# Altium integrated library Texas Instruments Power Management PWM Controller.IntLib: 1227 symbols (part 24 of 49)
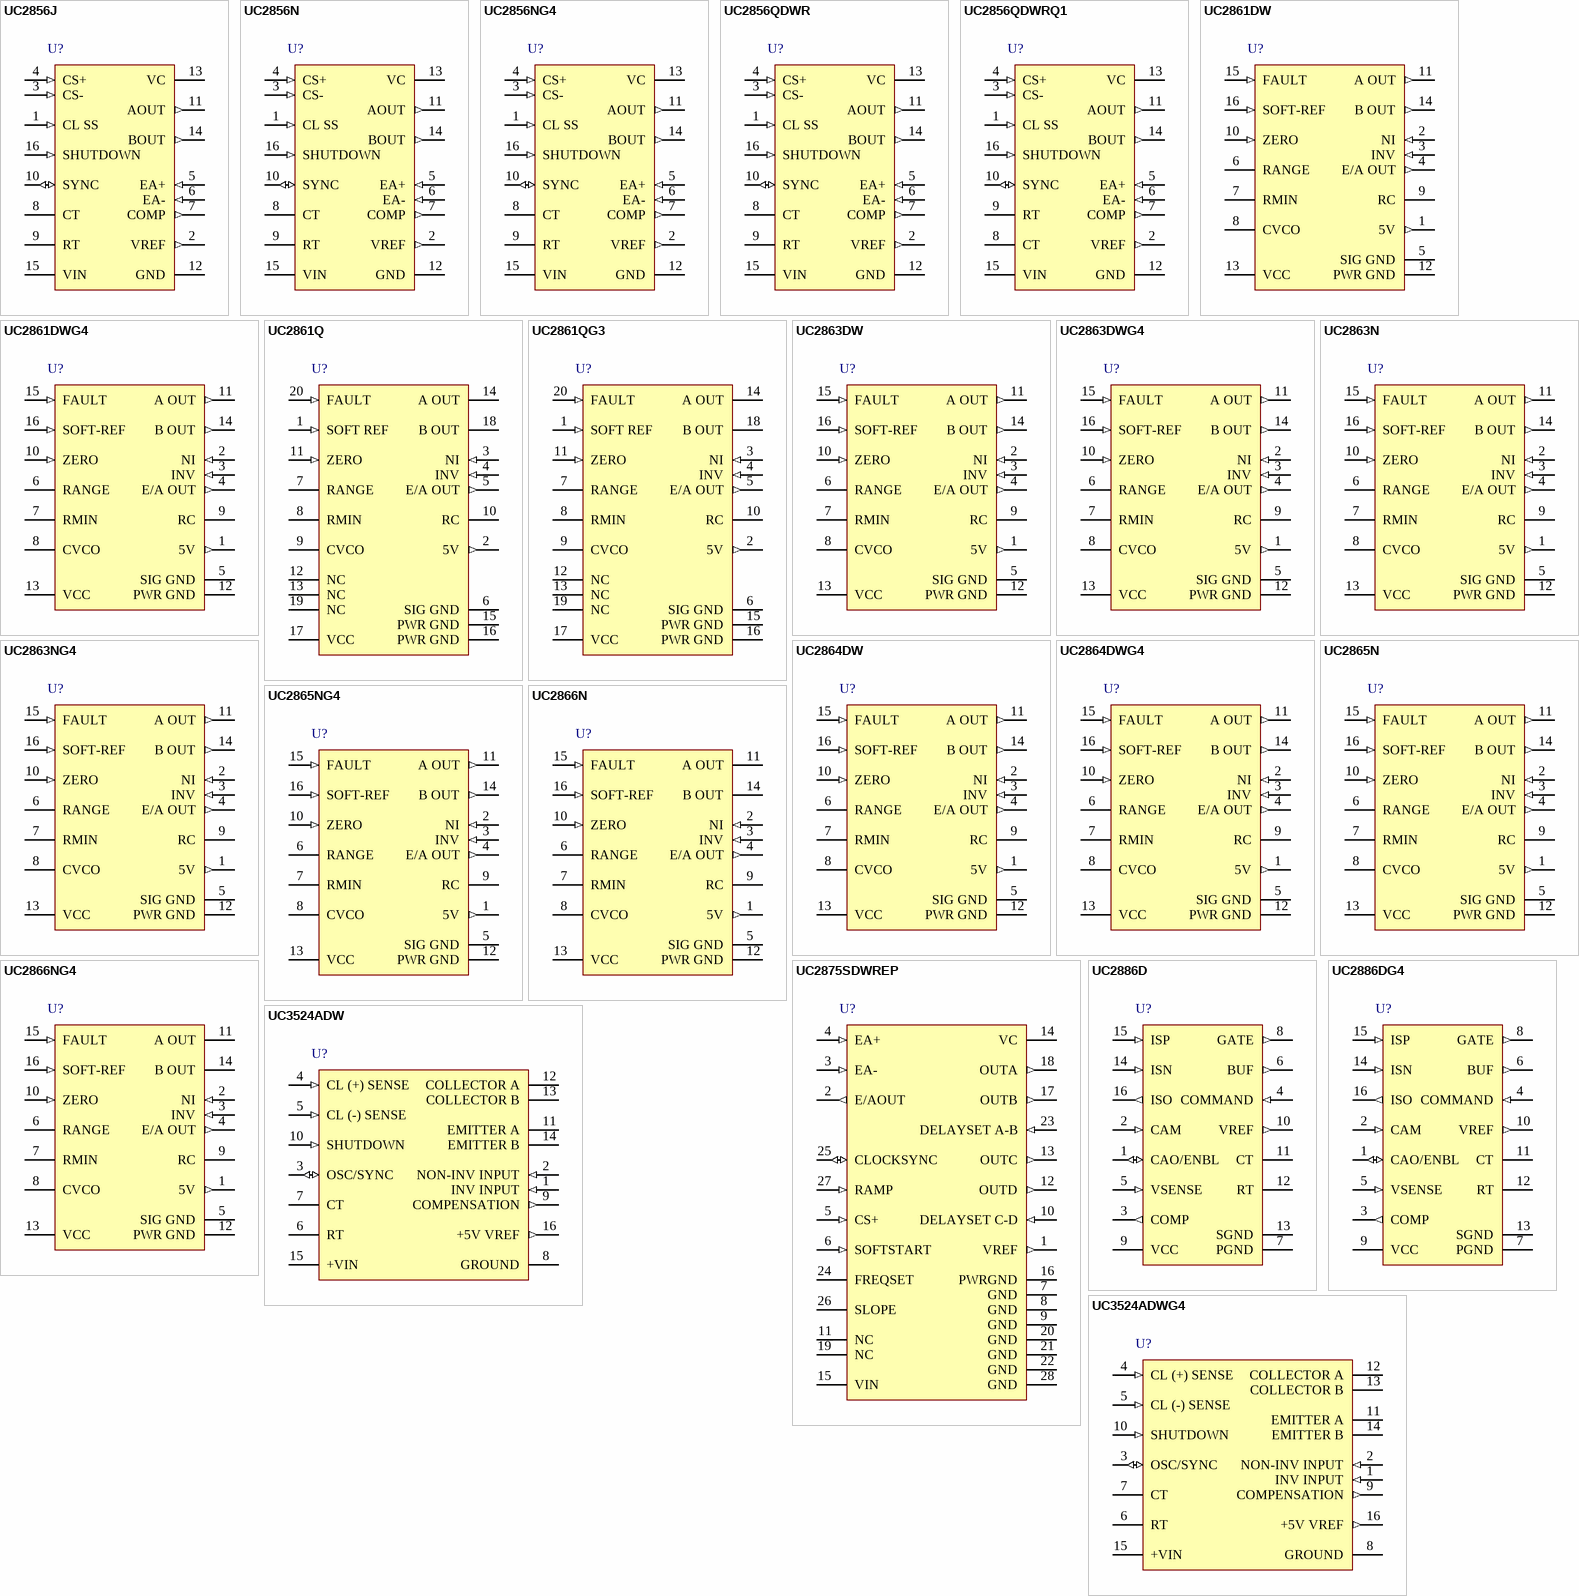
[diagram p66: symbols UC2856J to UC3524ADWG4]

## UC2861DWG4
designator U?
Resonant-Mode Power Supply Controller with Voltage Control, 50 % Duty Cycle, -40 to +85 degC, 16-pin SOIC (DW), Green (RoHS & no Sb/Br); PartNumber: UC2861DWG4; Manufacturer: Texas Instruments; Duty Cycle(Max)(%): 50; Frequency(Max)(kHz): 450; Rating: Catalog; Regulated Outputs(#): 2; SubFamily: PWM Controller; Topology: Full-Bridge, Half-Bridge, Push-Pull, Resonant; UVLO Thresholds On/Off(V): 16.5/10.5; DatasheetVersion: SLUS289B; PackageVersion: revG, Jan-2011; PackageReference: DW16; PackageDescription: 16-Pin Small Outline Integrated Circuit, 10.3 x 7.5 mm, Pitch 1.27 mm Pitch; Supplier 1: Digi-Key; Supplier Part Number 1: UC2861DWG4-ND; Supplier 2: Newark; Supplier Part Number 2: 63K6695; Supplier 3: Mouser; Supplier Part Number 3: 595-UC2861DWG4; Control Method: Voltage; Eco-Plan: Green (RoHS & no Sb/Br); Mounting Technology: Surface Mount; Code_JEDEC: MS-013-AA; ComponentLink1Description: Datasheet; ComponentLink1URL: http://www.ti.com/general/docs/lit/getliterature.tsp?genericPartNumber=UC2861&fileType=pdf
footprint DW16_N (SOIC, 16-Leads, Body 10.3x7.5mm, Pitch 1.27mm, IPC Medium Density)
footprint DW16_L (SOIC, 16-Leads, Body 10.3x7.5mm, Pitch 1.27mm, IPC High Density)
footprint DW16_M (SOIC, 16-Leads, Body 10.3x7.5mm, Pitch 1.27mm, IPC Low Density)
pins: 1 5V (out), 2 NI (in), 3 INV (in), 4 E/A OUT (out), 5 SIG GND (power), 6 RANGE, 7 RMIN, 8 CVCO, 9 RC, 10 ZERO (in), 11 A OUT (out), 12 PWR GND (power), 13 VCC (power), 14 B OUT (out), 15 FAULT (in), 16 SOFT-REF (in)

## UC2861Q
designator U?
Resonant-Mode Power Supply Controller with Voltage Control, 50 % Duty Cycle, -40 to +85 degC, 20-pin PLCC (FN), Green (RoHS & no Sb/Br); PartNumber: UC2861Q; Manufacturer: Texas Instruments; Duty Cycle(Max)(%): 50; Frequency(Max)(kHz): 450; Rating: Catalog; Regulated Outputs(#): 2; SubFamily: PWM Controller; Topology: Full-Bridge, Half-Bridge, Push-Pull, Resonant; UVLO Thresholds On/Off(V): 16.5/10.5; DatasheetVersion: SLUS289B; PackageVersion: revB, Mar-1995; PackageReference: FN20; PackageDescription: 20-Pin Plastic Leaded Chip Carrier, 1.27 mm Pitch; Supplier 1: Digi-Key; Supplier Part Number 1: UC2861Q-ND; Supplier 2: Newark; Supplier Part Number 2: 77C3041; Supplier 3: Mouser; Supplier Part Number 3: 595-UC2861Q; Control Method: Voltage; Eco-Plan: Green (RoHS & no Sb/Br); Mounting Technology: Surface Mount; Code_JEDEC: MS-018; ComponentLink1Description: Datasheet; ComponentLink1URL: http://www.ti.com/general/docs/lit/getliterature.tsp?genericPartNumber=UC2861&fileType=pdf
footprint FN20_N (Leaded Chip Carrier, 20-Leads, Body 9x9mm, Pitch 1.27mm, IPC Medium Density)
footprint FN20_L (Leaded Chip Carrier, 20-Leads, Body 9x9mm, Pitch 1.27mm, IPC High Density)
footprint FN20_M (Leaded Chip Carrier, 20-Leads, Body 9x9mm, Pitch 1.27mm, IPC Low Density)
pins: 1 SOFT REF (in), 2 5V (out), 3 NI (in), 4 INV (in), 5 E/A OUT (out), 6 SIG GND (power), 7 RANGE, 8 RMIN, 9 CVCO, 10 RC, 11 ZERO (in), 12 NC, 13 NC, 14 A OUT (hiz), 15 PWR GND (power), 16 PWR GND (power), 17 VCC (power), 18 B OUT (hiz), 19 NC, 20 FAULT (in)

## UC2861QG3
designator U?
Resonant-Mode Power Supply Controller with Voltage Control, 50 % Duty Cycle, -40 to +85 degC, 20-pin PLCC (FN), Green (RoHS & no Sb/Br); PartNumber: UC2861QG3; Manufacturer: Texas Instruments; Duty Cycle(Max)(%): 50; Frequency(Max)(kHz): 450; Rating: Catalog; Regulated Outputs(#): 2; SubFamily: PWM Controller; Topology: Full-Bridge, Half-Bridge, Push-Pull, Resonant; UVLO Thresholds On/Off(V): 16.5/10.5; DatasheetVersion: SLUS289B; PackageVersion: revB, Mar-1995; PackageReference: FN20; PackageDescription: 20-Pin Plastic Leaded Chip Carrier, 1.27 mm Pitch; Supplier 1: Digi-Key; Supplier Part Number 1: UC2861QG3-ND; Supplier 2: Newark; Supplier Part Number 2: 70K5986; Supplier 3: Mouser; Supplier Part Number 3: 595-UC2861QG3; Control Method: Voltage; Eco-Plan: Green (RoHS & no Sb/Br); Mounting Technology: Surface Mount; Code_JEDEC: MS-018; ComponentLink1Description: Datasheet; ComponentLink1URL: http://www.ti.com/general/docs/lit/getliterature.tsp?genericPartNumber=UC2861&fileType=pdf
footprint FN20_N (Leaded Chip Carrier, 20-Leads, Body 9x9mm, Pitch 1.27mm, IPC Medium Density)
footprint FN20_L (Leaded Chip Carrier, 20-Leads, Body 9x9mm, Pitch 1.27mm, IPC High Density)
footprint FN20_M (Leaded Chip Carrier, 20-Leads, Body 9x9mm, Pitch 1.27mm, IPC Low Density)
pins: 1 SOFT REF (in), 2 5V (out), 3 NI (in), 4 INV (in), 5 E/A OUT (out), 6 SIG GND (power), 7 RANGE, 8 RMIN, 9 CVCO, 10 RC, 11 ZERO (in), 12 NC, 13 NC, 14 A OUT (hiz), 15 PWR GND (power), 16 PWR GND (power), 17 VCC (power), 18 B OUT (hiz), 19 NC, 20 FAULT (in)

## UC2863DW
designator U?
Resonant-Mode Power Supply Controller with Voltage Control, 50 % Duty Cycle, -40 to +85 degC, 16-pin SOIC (DW), Green (RoHS & no Sb/Br); PartNumber: UC2863DW; Manufacturer: Texas Instruments; Duty Cycle(Max)(%): 50; Frequency(Max)(kHz): 450; Rating: Catalog; Regulated Outputs(#): 2; SubFamily: PWM Controller; Topology: Full-Bridge, Half-Bridge, Push-Pull, Resonant; UVLO Thresholds On/Off(V): 8/7; DatasheetVersion: SLUS289B; PackageVersion: revG, Jan-2011; PackageReference: DW16; PackageDescription: 16-Pin Small Outline Integrated Circuit, 10.3 x 7.5 mm, Pitch 1.27 mm Pitch; Supplier 1: Digi-Key; Supplier Part Number 1: 296-34725-5-ND; Supplier 2: Newark; Supplier Part Number 2: 77C3043; Supplier 3: Mouser; Supplier Part Number 3: 595-UC2863DW; Control Method: Voltage; Eco-Plan: Green (RoHS & no Sb/Br); Mounting Technology: Surface Mount; Code_JEDEC: MS-013-AA; ComponentLink1Description: Datasheet; ComponentLink1URL: http://www.ti.com/general/docs/lit/getliterature.tsp?genericPartNumber=UC2863&fileType=pdf
footprint DW16_N (SOIC, 16-Leads, Body 10.3x7.5mm, Pitch 1.27mm, IPC Medium Density)
footprint DW16_L (SOIC, 16-Leads, Body 10.3x7.5mm, Pitch 1.27mm, IPC High Density)
footprint DW16_M (SOIC, 16-Leads, Body 10.3x7.5mm, Pitch 1.27mm, IPC Low Density)
pins: 1 5V (out), 2 NI (in), 3 INV (in), 4 E/A OUT (out), 5 SIG GND (power), 6 RANGE, 7 RMIN, 8 CVCO, 9 RC, 10 ZERO (in), 11 A OUT (out), 12 PWR GND (power), 13 VCC (power), 14 B OUT (out), 15 FAULT (in), 16 SOFT-REF (in)

## UC2863DWG4
designator U?
Resonant-Mode Power Supply Controller with Voltage Control, 50 % Duty Cycle, -40 to +85 degC, 16-pin SOIC (DW), Green (RoHS & no Sb/Br); PartNumber: UC2863DWG4; Manufacturer: Texas Instruments; Duty Cycle(Max)(%): 50; Frequency(Max)(kHz): 450; Rating: Catalog; Regulated Outputs(#): 2; SubFamily: PWM Controller; Topology: Full-Bridge, Half-Bridge, Push-Pull, Resonant; UVLO Thresholds On/Off(V): 8/7; DatasheetVersion: SLUS289B; PackageVersion: revG, Jan-2011; PackageReference: DW16; PackageDescription: 16-Pin Small Outline Integrated Circuit, 10.3 x 7.5 mm, Pitch 1.27 mm Pitch; Supplier 1: Digi-Key; Supplier Part Number 1: UC2863DWG4-ND; Supplier 2: Newark; Supplier Part Number 2: 63K6697; Supplier 3: Mouser; Supplier Part Number 3: 595-UC2863DWG4; Control Method: Voltage; Eco-Plan: Green (RoHS & no Sb/Br); Mounting Technology: Surface Mount; Code_JEDEC: MS-013-AA; ComponentLink1Description: Datasheet; ComponentLink1URL: http://www.ti.com/general/docs/lit/getliterature.tsp?genericPartNumber=UC2863&fileType=pdf
footprint DW16_N (SOIC, 16-Leads, Body 10.3x7.5mm, Pitch 1.27mm, IPC Medium Density)
footprint DW16_L (SOIC, 16-Leads, Body 10.3x7.5mm, Pitch 1.27mm, IPC High Density)
footprint DW16_M (SOIC, 16-Leads, Body 10.3x7.5mm, Pitch 1.27mm, IPC Low Density)
pins: 1 5V (out), 2 NI (in), 3 INV (in), 4 E/A OUT (out), 5 SIG GND (power), 6 RANGE, 7 RMIN, 8 CVCO, 9 RC, 10 ZERO (in), 11 A OUT (out), 12 PWR GND (power), 13 VCC (power), 14 B OUT (out), 15 FAULT (in), 16 SOFT-REF (in)

## UC2863N
designator U?
Resonant-Mode Power Supply Controller with Voltage Control, 50 % Duty Cycle, -40 to +85 degC, 16-pin PDIP (N), Green (RoHS & no Sb/Br); PartNumber: UC2863N; Manufacturer: Texas Instruments; Duty Cycle(Max)(%): 50; Frequency(Max)(kHz): 450; Rating: Catalog; Regulated Outputs(#): 2; SubFamily: PWM Controller; Topology: Full-Bridge, Half-Bridge, Push-Pull, Resonant; UVLO Thresholds On/Off(V): 8/7; DatasheetVersion: SLUS289B; PackageVersion: revE, Dec-2002; PackageReference: N16; PackageDescription: 16-Pin Plastic Dual-In-Line Package, Row Spacing 7.62 mm, Pitch 2.54 mm; Supplier 1: Digi-Key; Supplier Part Number 1: UC2863N-ND; Supplier 2: Newark; Supplier Part Number 2: 77C3045; Supplier 3: Mouser; Supplier Part Number 3: 595-UC2863N; Control Method: Voltage; Eco-Plan: Green (RoHS & no Sb/Br); Mounting Technology: Through Hole; Code_JEDEC: MS-001*; ComponentLink1Description: Datasheet; ComponentLink1URL: http://www.ti.com/general/docs/lit/getliterature.tsp?genericPartNumber=UC2863&fileType=pdf
footprint N16 (DIP, 16-Leads, Row Spacing 7.62mm, Pitch 2.54mm, Body 19.3x6.4mm)
pins: 1 5V (out), 2 NI (in), 3 INV (in), 4 E/A OUT (out), 5 SIG GND (power), 6 RANGE, 7 RMIN, 8 CVCO, 9 RC, 10 ZERO (in), 11 A OUT (out), 12 PWR GND (power), 13 VCC (power), 14 B OUT (out), 15 FAULT (in), 16 SOFT-REF (in)

## UC2863NG4
designator U?
Resonant-Mode Power Supply Controller with Voltage Control, 50 % Duty Cycle, -40 to +85 degC, 16-pin PDIP (N), Green (RoHS & no Sb/Br); PartNumber: UC2863NG4; Manufacturer: Texas Instruments; Duty Cycle(Max)(%): 50; Frequency(Max)(kHz): 450; Rating: Catalog; Regulated Outputs(#): 2; SubFamily: PWM Controller; Topology: Full-Bridge, Half-Bridge, Push-Pull, Resonant; UVLO Thresholds On/Off(V): 8/7; DatasheetVersion: SLUS289B; PackageVersion: revE, Dec-2002; PackageReference: N16; PackageDescription: 16-Pin Plastic Dual-In-Line Package, Row Spacing 7.62 mm, Pitch 2.54 mm; Supplier 1: Digi-Key; Supplier Part Number 1: UC2863NG4-ND; Supplier 2: Newark; Supplier Part Number 2: 67K8822; Supplier 3: Mouser; Supplier Part Number 3: 595-UC2863NG4; Control Method: Voltage; Eco-Plan: Green (RoHS & no Sb/Br); Mounting Technology: Through Hole; Code_JEDEC: MS-001*; ComponentLink1Description: Datasheet; ComponentLink1URL: http://www.ti.com/general/docs/lit/getliterature.tsp?genericPartNumber=UC2863&fileType=pdf
footprint N16 (DIP, 16-Leads, Row Spacing 7.62mm, Pitch 2.54mm, Body 19.3x6.4mm)
pins: 1 5V (out), 2 NI (in), 3 INV (in), 4 E/A OUT (out), 5 SIG GND (power), 6 RANGE, 7 RMIN, 8 CVCO, 9 RC, 10 ZERO (in), 11 A OUT (out), 12 PWR GND (power), 13 VCC (power), 14 B OUT (out), 15 FAULT (in), 16 SOFT-REF (in)

## UC2864DW
designator U?
Resonant-Mode Power Supply Controller with Voltage Control, 1 % Duty Cycle, -40 to +85 degC, 16-pin SOIC (DW), Green (RoHS & no Sb/Br); PartNumber: UC2864DW; Manufacturer: Texas Instruments; Duty Cycle(Max)(%): 1; Frequency(Max)(kHz): 450; Rating: Catalog; SubFamily: PWM Controller; Topology: Boost, Buck, Flyback, Forward, Resonant; UVLO Thresholds On/Off(V): 8/7; DatasheetVersion: SLUS289B; PackageVersion: revG, Jan-2011; PackageReference: DW16; PackageDescription: 16-Pin Small Outline Integrated Circuit, 10.3 x 7.5 mm, Pitch 1.27 mm Pitch; Supplier 1: Digi-Key; Supplier Part Number 1: 296-11199-5-ND; Supplier 2: Newark; Supplier Part Number 2: 77C3046; Supplier 3: Mouser; Supplier Part Number 3: 595-UC2864DW; Control Method: Voltage; Eco-Plan: Green (RoHS & no Sb/Br); Regulated Outputs(#): 1; Mounting Technology: Surface Mount; Code_JEDEC: MS-013-AA; ComponentLink1Description: Datasheet; ComponentLink1URL: http://www.ti.com/general/docs/lit/getliterature.tsp?genericPartNumber=UC2864&fileType=pdf
footprint DW16_N (SOIC, 16-Leads, Body 10.3x7.5mm, Pitch 1.27mm, IPC Medium Density)
footprint DW16_L (SOIC, 16-Leads, Body 10.3x7.5mm, Pitch 1.27mm, IPC High Density)
footprint DW16_M (SOIC, 16-Leads, Body 10.3x7.5mm, Pitch 1.27mm, IPC Low Density)
pins: 1 5V (out), 2 NI (in), 3 INV (in), 4 E/A OUT (out), 5 SIG GND (power), 6 RANGE, 7 RMIN, 8 CVCO, 9 RC, 10 ZERO (in), 11 A OUT (out), 12 PWR GND (power), 13 VCC (power), 14 B OUT (out), 15 FAULT (in), 16 SOFT-REF (in)

## UC2864DWG4
designator U?
Resonant-Mode Power Supply Controller with Voltage Control, 1 % Duty Cycle, -40 to +85 degC, 16-pin SOIC (DW), Green (RoHS & no Sb/Br); PartNumber: UC2864DWG4; Manufacturer: Texas Instruments; Duty Cycle(Max)(%): 1; Frequency(Max)(kHz): 450; Rating: Catalog; SubFamily: PWM Controller; Topology: Boost, Buck, Flyback, Forward, Resonant; UVLO Thresholds On/Off(V): 8/7; DatasheetVersion: SLUS289B; PackageVersion: revG, Jan-2011; PackageReference: DW16; PackageDescription: 16-Pin Small Outline Integrated Circuit, 10.3 x 7.5 mm, Pitch 1.27 mm Pitch; Supplier 1: Digi-Key; Supplier Part Number 1: UC2864DWG4-ND; Supplier 2: Newark; Supplier Part Number 2: 63K6699; Supplier 3: Mouser; Supplier Part Number 3: 595-UC2864DWG4; Control Method: Voltage; Eco-Plan: Green (RoHS & no Sb/Br); Regulated Outputs(#): 1; Mounting Technology: Surface Mount; Code_JEDEC: MS-013-AA; ComponentLink1Description: Datasheet; ComponentLink1URL: http://www.ti.com/general/docs/lit/getliterature.tsp?genericPartNumber=UC2864&fileType=pdf
footprint DW16_N (SOIC, 16-Leads, Body 10.3x7.5mm, Pitch 1.27mm, IPC Medium Density)
footprint DW16_L (SOIC, 16-Leads, Body 10.3x7.5mm, Pitch 1.27mm, IPC High Density)
footprint DW16_M (SOIC, 16-Leads, Body 10.3x7.5mm, Pitch 1.27mm, IPC Low Density)
pins: 1 5V (out), 2 NI (in), 3 INV (in), 4 E/A OUT (out), 5 SIG GND (power), 6 RANGE, 7 RMIN, 8 CVCO, 9 RC, 10 ZERO (in), 11 A OUT (out), 12 PWR GND (power), 13 VCC (power), 14 B OUT (out), 15 FAULT (in), 16 SOFT-REF (in)

## UC2865N
designator U?
Resonant-Mode Power Supply Controller with Voltage Control, 50 % Duty Cycle, -40 to +85 degC, 16-pin PDIP (N), Green (RoHS & no Sb/Br); PartNumber: UC2865N; Manufacturer: Texas Instruments; Duty Cycle(Max)(%): 50; Frequency(Max)(kHz): 450; Rating: Catalog; Regulated Outputs(#): 2; SubFamily: PWM Controller; Topology: Full-Bridge, Half-Bridge, Push-Pull, Resonant; UVLO Thresholds On/Off(V): 16.5/10.5; DatasheetVersion: SLUS289B; PackageVersion: revE, Dec-2002; PackageReference: N16; PackageDescription: 16-Pin Plastic Dual-In-Line Package, Row Spacing 7.62 mm, Pitch 2.54 mm; Supplier 1: Digi-Key; Supplier Part Number 1: 296-34726-5-ND; Supplier 2: Newark; Supplier Part Number 2: 77C3051; Supplier 3: Mouser; Supplier Part Number 3: 595-UC2865N; Control Method: Voltage; Eco-Plan: Green (RoHS & no Sb/Br); Mounting Technology: Through Hole; Code_JEDEC: MS-001*; ComponentLink1Description: Datasheet; ComponentLink1URL: http://www.ti.com/general/docs/lit/getliterature.tsp?genericPartNumber=UC2865&fileType=pdf
footprint N16 (DIP, 16-Leads, Row Spacing 7.62mm, Pitch 2.54mm, Body 19.3x6.4mm)
pins: 1 5V (out), 2 NI (in), 3 INV (in), 4 E/A OUT (out), 5 SIG GND (power), 6 RANGE, 7 RMIN, 8 CVCO, 9 RC, 10 ZERO (in), 11 A OUT (out), 12 PWR GND (power), 13 VCC (power), 14 B OUT (out), 15 FAULT (in), 16 SOFT-REF (in)

## UC2865NG4
designator U?
Resonant-Mode Power Supply Controller with Voltage Control, 50 % Duty Cycle, -40 to +85 degC, 16-pin PDIP (N), Green (RoHS & no Sb/Br); PartNumber: UC2865NG4; Manufacturer: Texas Instruments; Duty Cycle(Max)(%): 50; Frequency(Max)(kHz): 450; Rating: Catalog; Regulated Outputs(#): 2; SubFamily: PWM Controller; Topology: Full-Bridge, Half-Bridge, Push-Pull, Resonant; UVLO Thresholds On/Off(V): 16.5/10.5; DatasheetVersion: SLUS289B; PackageVersion: revE, Dec-2002; PackageReference: N16; PackageDescription: 16-Pin Plastic Dual-In-Line Package, Row Spacing 7.62 mm, Pitch 2.54 mm; Supplier 1: Digi-Key; Supplier Part Number 1: UC2865NG4-ND; Supplier 2: Newark; Supplier Part Number 2: 54K2289; Supplier 3: Mouser; Supplier Part Number 3: 595-UC2865NG4; Control Method: Voltage; Eco-Plan: Green (RoHS & no Sb/Br); Mounting Technology: Through Hole; Code_JEDEC: MS-001*; ComponentLink1Description: Datasheet; ComponentLink1URL: http://www.ti.com/general/docs/lit/getliterature.tsp?genericPartNumber=UC2865&fileType=pdf
footprint N16 (DIP, 16-Leads, Row Spacing 7.62mm, Pitch 2.54mm, Body 19.3x6.4mm)
pins: 1 5V (out), 2 NI (in), 3 INV (in), 4 E/A OUT (out), 5 SIG GND (power), 6 RANGE, 7 RMIN, 8 CVCO, 9 RC, 10 ZERO (in), 11 A OUT (out), 12 PWR GND (power), 13 VCC (power), 14 B OUT (out), 15 FAULT (in), 16 SOFT-REF (in)

## UC2866N
designator U?
Resonant-Mode Power Supply Controller with Voltage Control, 1 % Duty Cycle, -40 to +85 degC, 16-pin PDIP (N), Green (RoHS & no Sb/Br); PartNumber: UC2866N; Manufacturer: Texas Instruments; Duty Cycle(Max)(%): 1; Frequency(Max)(kHz): 450; Rating: Catalog; SubFamily: PWM Controller; Topology: Boost, Buck, Flyback, Forward, Resonant; UVLO Thresholds On/Off(V): 16.5/10.5; DatasheetVersion: SLUS289B; PackageVersion: revE, Dec-2002; PackageReference: N16; PackageDescription: 16-Pin Plastic Dual-In-Line Package, Row Spacing 7.62 mm, Pitch 2.54 mm; Supplier 1: Digi-Key; Supplier Part Number 1: 296-15348-5-ND; Supplier 2: Newark; Supplier Part Number 2: 77C3052; Supplier 3: Mouser; Supplier Part Number 3: 595-UC2866N; Control Method: Voltage; Eco-Plan: Green (RoHS & no Sb/Br); Regulated Outputs(#): 1; Mounting Technology: Through Hole; Code_JEDEC: MS-001*; ComponentLink1Description: Datasheet; ComponentLink1URL: http://www.ti.com/general/docs/lit/getliterature.tsp?genericPartNumber=UC2866&fileType=pdf
footprint N16 (DIP, 16-Leads, Row Spacing 7.62mm, Pitch 2.54mm, Body 19.3x6.4mm)
pins: 1 5V (out), 2 NI (in), 3 INV (in), 4 E/A OUT (out), 5 SIG GND (power), 6 RANGE, 7 RMIN, 8 CVCO, 9 RC, 10 ZERO (in), 11 A OUT (hiz), 12 PWR GND (power), 13 VCC (power), 14 B OUT (hiz), 15 FAULT (in), 16 SOFT-REF (in)

## UC2866NG4
designator U?
Resonant-Mode Power Supply Controller with Voltage Control, 1 % Duty Cycle, -40 to +85 degC, 16-pin PDIP (N), Green (RoHS & no Sb/Br); PartNumber: UC2866NG4; Manufacturer: Texas Instruments; Duty Cycle(Max)(%): 1; Frequency(Max)(kHz): 450; Rating: Catalog; SubFamily: PWM Controller; Topology: Boost, Buck, Flyback, Forward, Resonant; UVLO Thresholds On/Off(V): 16.5/10.5; DatasheetVersion: SLUS289B; PackageVersion: revE, Dec-2002; PackageReference: N16; PackageDescription: 16-Pin Plastic Dual-In-Line Package, Row Spacing 7.62 mm, Pitch 2.54 mm; Supplier 1: Digi-Key; Supplier Part Number 1: UC2866NG4-ND; Supplier 2: Newark; Supplier Part Number 2: 61K1998; Supplier 3: Mouser; Supplier Part Number 3: 595-UC2866NG4; Control Method: Voltage; Eco-Plan: Green (RoHS & no Sb/Br); Regulated Outputs(#): 1; Mounting Technology: Through Hole; Code_JEDEC: MS-001*; ComponentLink1Description: Datasheet; ComponentLink1URL: http://www.ti.com/general/docs/lit/getliterature.tsp?genericPartNumber=UC2866&fileType=pdf
footprint N16 (DIP, 16-Leads, Row Spacing 7.62mm, Pitch 2.54mm, Body 19.3x6.4mm)
pins: 1 5V (out), 2 NI (in), 3 INV (in), 4 E/A OUT (out), 5 SIG GND (power), 6 RANGE, 7 RMIN, 8 CVCO, 9 RC, 10 ZERO (in), 11 A OUT (hiz), 12 PWR GND (power), 13 VCC (power), 14 B OUT (hiz), 15 FAULT (in), 16 SOFT-REF (in)

## UC2875SDWREP
designator U?
Phase Shift Resonant Controller with Current, Voltage Control, 100 % Duty Cycle, -25 to +110 degC, 28-pin SOIC (DW), Green (RoHS & no Sb/Br); PartNumber: UC2875SDWREP; Manufacturer: Texas Instruments; Duty Cycle(Max)(%): 100; Frequency(Max)(kHz): 1000; Rating: HiRel Enhanced Product; Regulated Outputs(#): 4; SubFamily: PWM Controller; Topology: Full-Bridge; DatasheetVersion: SGLS233A; PackageVersion: revG, Jan-2011; PackageReference: DW28; PackageDescription: 28-Pin Plastic Small Outline Integrated Circuit, 17.9 x 7.5 mm, Pitch 1.27 mm Pitch; Supplier 1: Digi-Key; Supplier Part Number 1: 296-20800-2-ND; Supplier 2: Digi-Key; Supplier Part Number 2: 296-20800-1-ND; Supplier 3: Digi-Key; Supplier Part Number 3: 296-20800-6-ND; Supplier 4: Newark; Supplier Part Number 4: 46M1396; Supplier 5: Mouser; Supplier Part Number 5: 595-UC2875SDWREP; Control Method: Current, Voltage; Eco-Plan: Green (RoHS & no Sb/Br); Mounting Technology: Surface Mount; Code_JEDEC: MS-013-AE; ComponentLink1Description: Datasheet; ComponentLink1URL: http://www.ti.com/general/docs/lit/getliterature.tsp?genericPartNumber=UC2875-EP&fileType=pdf
footprint DW28_N (SOIC, 28-Leads, Body 17.9x7.5mm, Pitch 1.27mm, IPC Medium Density)
footprint DW28_L (SOIC, 28-Leads, Body 17.9x7.5mm, Pitch 1.27mm, IPC High Density)
footprint DW28_M (SOIC, 28-Leads, Body 17.9x7.5mm, Pitch 1.27mm, IPC Low Density)
pins: 1 VREF (out) "This pin is an accurate 5 V voltage reference. This output is capable of delivering about 60 mA to peripheral circuitry and is internally short circuit current limited. VREF is disabled while VIN is low enough to force the (See Datasheet)", 2 E/AOUT (out) "(error amplifier output): This is is the gain stage for overall feedback control. Error amplifier output voltage levels below 1 volt will force 0 degC  phase shift. Since the error amplifier has a relatively low current (See Datasheet)", 3 EA- (in) "This is normally connected to the voltage divider resistors which sense the power supply output voltage level.", 4 EA+ (in) "This is normally connected to a reference voltage used for comparison with the sensed power supply output voltage level at the EA+ pin.", 5 CS+ (in) "The non-inverting input to the current- fault comparator whose reference is set internally to a fixed 2.5 V (separate from VREF). When the voltage at this pin exceeds 2.5 V the current-fault latch is set, the outputs are (See Datasheet)", 6 SOFTSTART (in) "SOFTSTART will remain at GND as long as VIN is below the UVLO threshold. SOFTSTART will be pulled up to about 4.8 V by an internal 9 uA current source when VIN becomes valid (assuming a non-fault condition). In the event of (See Datasheet)", 7 GND (power) "All voltages are measured with respect to GND. The timing capacitor, on the FREQSET pin, any bypass capacitor on the VREF pin, bypass capacitors on VIN and the ramp capacitor, on the RAMP pin, should be connected directly to (See Datasheet)", 8 GND (power) "All voltages are measured with respect to GND. The timing capacitor, on the FREQSET pin, any bypass capacitor on the VREF pin, bypass capacitors on VIN and the ramp capacitor, on the RAMP pin, should be connected directly to (See Datasheet)", 9 GND (power) "All voltages are measured with respect to GND. The timing capacitor, on the FREQSET pin, any bypass capacitor on the VREF pin, bypass capacitors on VIN and the ramp capacitor, on the RAMP pin, should be connected directly to (See Datasheet)", 10 DELAYSET C-D (in) "The user programmed current flowing from these pins to GND set the turn-on delay for the corresponding output pair. This delay is introduced between turn-off of one switch and turn-on of another in the same leg of the bridge (See Datasheet)", 11 NC "No Connect", 12 OUTD (out) "The outputs are 2 A totem- pole drivers optimized for both MOSFET gates and level-shifting transformers. The outputs operate as pairs with a nominal 50% duty-cycle. The A-B pair is intended to drive one half-bridge in the (See Datasheet)", 13 OUTC (out) "The outputs are 2 A totem- pole drivers optimized for both MOSFET gates and level-shifting transformers. The outputs operate as pairs with a nominal 50% duty-cycle. The A-B pair is intended to drive one half-bridge in the (See Datasheet)", 14 VC (power) "This pin supplies power to the output drivers and their associated bias circuitry. Connect VC to a stable source above 3 V for normal operation, above 12 V for best performance. This supply should be bypassed directly to the (See Datasheet)", 15 VIN (power) "This pin supplies power to the logic and analog circuitry on the integrated circuit that is not directly associated with driving the output stages. Connect VIN to a stable source above 12 V for normal operation. To ensure (See Datasheet)", 16 PWRGND (power) "VC should be bypassed with a ceramic capacitor from the VC pin to the section of the ground plane that is connected to PWRGND. Any required bulk reservoir capacitor should parallel this one. Power ground and signal ground (See Datasheet)", 17 OUTB (out) "The outputs are 2 A totem- pole drivers optimized for both MOSFET gates and level-shifting transformers. The outputs operate as pairs with a nominal 50% duty-cycle. The A-B pair is intended to drive one half-bridge in the (See Datasheet)", 18 OUTA (out) "The outputs are 2 A totem- pole drivers optimized for both MOSFET gates and level-shifting transformers. The outputs operate as pairs with a nominal 50% duty-cycle. The A-B pair is intended to drive one half-bridge in the (See Datasheet)", 19 NC "No Connect", 20 GND (power) "All voltages are measured with respect to GND. The timing capacitor, on the FREQSET pin, any bypass capacitor on the VREF pin, bypass capacitors on VIN and the ramp capacitor, on the RAMP pin, should be connected directly to (See Datasheet)", 21 GND (power) "All voltages are measured with respect to GND. The timing capacitor, on the FREQSET pin, any bypass capacitor on the VREF pin, bypass capacitors on VIN and the ramp capacitor, on the RAMP pin, should be connected directly to (See Datasheet)", 22 GND (power) "All voltages are measured with respect to GND. The timing capacitor, on the FREQSET pin, any bypass capacitor on the VREF pin, bypass capacitors on VIN and the ramp capacitor, on the RAMP pin, should be connected directly to (See Datasheet)", 23 DELAYSET A-B (in) "The user programmed current flowing from these pins to GND set the turn-on delay for the corresponding output pair. This delay is introduced between turn-off of one switch and turn-on of another in the same leg of the bridge (See Datasheet)", 24 FREQSET "A resistor and a capacitor from FREQSET to GND will set the oscillator frequency.", 25 CLOCKSYNC (io) "(bi-directional clock and synchronization pin): Used as an output, this pin provides a clock signal. As an input, this pin provides a synchronization point. In its simplest usage, multiple devices, each with their own local (See Datasheet)", 26 SLOPE "A resistor from this pin to VCC will set the current used to generate the ramp. Connecting this resistor to the DC input line voltage will provide voltage feed-forward.", 27 RAMP (in) "This pin is the input to the PWM comparator. Connect a capacitor from here to GND.Current mode control may be achieved with a minimum amount of external circuitry, in which  ease this pin provides slope compensation.Beacuse (See Datasheet)", 28 GND (power) "All voltages are measured with respect to GND. The timing capacitor, on the FREQSET pin, any bypass capacitor on the VREF pin, bypass capacitors on VIN and the ramp capacitor, on the RAMP pin, should be connected directly to (See Datasheet)"

## UC2886D
designator U?
Average PWM Controller IC with Current Control, -40 to +85 degC, 16-pin SOIC (D), Green (RoHS & no Sb/Br); PartNumber: UC2886D; Manufacturer: Texas Instruments; Frequency(Max)(kHz): 400; Rating: Catalog; Regulated Outputs(#): 1; DatasheetVersion: SLUS231; PackageVersion: revM, Jun-2011; PackageReference: D16; PackageDescription: 16-Pin Plastic Small Outline Integrated Circuit, 9.9 x 3.9 mm, Pitch 1.27 mm Pitch; Supplier 1: Digi-Key; Supplier Part Number 1: 296-34729-5-ND; Supplier 2: Newark; Supplier Part Number 2: 77C3074; Supplier 3: Mouser; Supplier Part Number 3: 595-UC2886D; Control Method: Current; Eco-Plan: Green (RoHS & no Sb/Br); SubFamily: PWM Controller; Mounting Technology: Surface Mount; Code_JEDEC: MS-012AC; ComponentLink1Description: Datasheet; ComponentLink1URL: http://www.ti.com/general/docs/lit/getliterature.tsp?genericPartNumber=UC2886&fileType=pdf
footprint D16_N (SOIC, 16-Leads, Body 9.9x3.9mm, Pitch 1.27mm, IPC Medium Density)
footprint D16_L (SOIC, 16-Leads, Body 9.9x3.9mm, Pitch 1.27mm, IPC High Density)
footprint D16_M (SOIC, 16-Leads, Body 9.9x3.9mm, Pitch 1.27mm, IPC Low Density)
pins: 1 CAO/ENBL (io) "(Current Amplifier Output/Chip Enable) The current loop compensation network is connected between CAO/ENBL and CAM, the inverting input of the current amplifier. The voltage at CAO/ENBL is the input to the PWM comparator and (See Datasheet)", 2 CAM (in) "(Current Amplifier Minus Input) The average load current feedback from ISO is typically applied through a resistor here.", 3 COMP (out) "(Compensation, Voltage Amplifier Output) The system voltage compensation network is applied between COMP and VSENSE. The voltage at COMP is clamped to prevent it from going more than 1V above the COMMAND voltage. This is (See Datasheet)", 4 COMMAND (in) "(Voltage Amplifier Non-Inverting Input) This input to the voltage amplifier is connected to a command voltage, such as the output of a DAC. This voltage sets the switching regulator output voltage.", 5 VSENSE (in) "(Voltage Sense Input) This input is connected to COMP through a feedback network and to the power supply output through a resistor or a divider network.", 6 BUF (out) "The voltage on COMMAND pin is buffered and presented to the user here. This voltage is used to provide the operating bias point for the current sense amplifier by connecting a resistor between BUF and ISP. Decouple BUF with (See Datasheet)", 7 PGND (power) "(Power Ground) The PWM output current returns to ground through this pin. This is separated from SGND to avoid on-chip ground noise generated by the output current.", 8 GATE (out) "(PWM Output) The output is a 1A totem pole driver. Use a series resistor of at least 5 to prevent interaction between the gate impedance and the output driver that might cause excessive overshoot.", 9 VCC (power) "(Positive Supply Voltage) This pin supplies power to the chip and to the gate drive output. Decouple to PGND and separately to SGND for best noise immunity. The reference (VREF), GATE output, oscillator, and amplifiers are (See Datasheet)", 10 VREF (out) "(Voltage Reference Output) An accurate 5V reference as provided at this pin. The output can deliver 2mA to external circuitry, and is internally short circuit current limited.", 11 CT "(Oscillator Timing Capacitor) A capacitor from CT to SGND along with the resistor on RT.", 12 RT "(Oscillator Charging Current) This pin is held at 2V. Resistor RT from this pin to SGND sets the oscillator charging current. Use 5k < RT < 100k.", 13 SGND (power) "(Signal Ground) For better noise immunity, signal ground is provided at this pin.", 14 ISN (in) "(Current Sense Amplifier Inverting Input) A resistor to the low side of the average current sense resistor and a resistor to ISO are applied to this pin to make a differential sensing amplifier.", 15 ISP (in) "(Current Sense Amplifier Non-Inverting Input) A resistor to the high side of the average current sense resistor and a resistor to BUF are connected to this pin to make a differential sensing amplifier.", 16 ISO (out) "(Current Sense Amplifier Output) A feedback resistor to ISN is connected here to make a differential sensing amplifier."

## UC2886DG4
designator U?
Average PWM Controller IC with Current Control, -40 to +85 degC, 16-pin SOIC (D), Green (RoHS & no Sb/Br); PartNumber: UC2886DG4; Manufacturer: Texas Instruments; Frequency(Max)(kHz): 400; Rating: Catalog; Regulated Outputs(#): 1; DatasheetVersion: SLUS231; PackageVersion: revM, Jun-2011; PackageReference: D16; PackageDescription: 16-Pin Plastic Small Outline Integrated Circuit, 9.9 x 3.9 mm, Pitch 1.27 mm Pitch; Supplier 1: Digi-Key; Supplier Part Number 1: UC2886DG4-ND; Supplier 2: Newark; Supplier Part Number 2: 81K4517; Supplier 3: Mouser; Supplier Part Number 3: 595-UC2886DG4; Control Method: Current; Eco-Plan: Green (RoHS & no Sb/Br); SubFamily: PWM Controller; Mounting Technology: Surface Mount; Code_JEDEC: MS-012AC; ComponentLink1Description: Datasheet; ComponentLink1URL: http://www.ti.com/general/docs/lit/getliterature.tsp?genericPartNumber=UC2886&fileType=pdf
footprint D16_N (SOIC, 16-Leads, Body 9.9x3.9mm, Pitch 1.27mm, IPC Medium Density)
footprint D16_L (SOIC, 16-Leads, Body 9.9x3.9mm, Pitch 1.27mm, IPC High Density)
footprint D16_M (SOIC, 16-Leads, Body 9.9x3.9mm, Pitch 1.27mm, IPC Low Density)
pins: 1 CAO/ENBL (io) "(Current Amplifier Output/Chip Enable) The current loop compensation network is connected between CAO/ENBL and CAM, the inverting input of the current amplifier. The voltage at CAO/ENBL is the input to the PWM comparator and (See Datasheet)", 2 CAM (in) "(Current Amplifier Minus Input) The average load current feedback from ISO is typically applied through a resistor here.", 3 COMP (out) "(Compensation, Voltage Amplifier Output) The system voltage compensation network is applied between COMP and VSENSE. The voltage at COMP is clamped to prevent it from going more than 1V above the COMMAND voltage. This is (See Datasheet)", 4 COMMAND (in) "(Voltage Amplifier Non-Inverting Input) This input to the voltage amplifier is connected to a command voltage, such as the output of a DAC. This voltage sets the switching regulator output voltage.", 5 VSENSE (in) "(Voltage Sense Input) This input is connected to COMP through a feedback network and to the power supply output through a resistor or a divider network.", 6 BUF (out) "The voltage on COMMAND pin is buffered and presented to the user here. This voltage is used to provide the operating bias point for the current sense amplifier by connecting a resistor between BUF and ISP. Decouple BUF with (See Datasheet)", 7 PGND (power) "(Power Ground) The PWM output current returns to ground through this pin. This is separated from SGND to avoid on-chip ground noise generated by the output current.", 8 GATE (out) "(PWM Output) The output is a 1A totem pole driver. Use a series resistor of at least 5 to prevent interaction between the gate impedance and the output driver that might cause excessive overshoot.", 9 VCC (power) "(Positive Supply Voltage) This pin supplies power to the chip and to the gate drive output. Decouple to PGND and separately to SGND for best noise immunity. The reference (VREF), GATE output, oscillator, and amplifiers are (See Datasheet)", 10 VREF (out) "(Voltage Reference Output) An accurate 5V reference as provided at this pin. The output can deliver 2mA to external circuitry, and is internally short circuit current limited.", 11 CT "(Oscillator Timing Capacitor) A capacitor from CT to SGND along with the resistor on RT.", 12 RT "(Oscillator Charging Current) This pin is held at 2V. Resistor RT from this pin to SGND sets the oscillator charging current. Use 5k < RT < 100k.", 13 SGND (power) "(Signal Ground) For better noise immunity, signal ground is provided at this pin.", 14 ISN (in) "(Current Sense Amplifier Inverting Input) A resistor to the low side of the average current sense resistor and a resistor to ISO are applied to this pin to make a differential sensing amplifier.", 15 ISP (in) "(Current Sense Amplifier Non-Inverting Input) A resistor to the high side of the average current sense resistor and a resistor to BUF are connected to this pin to make a differential sensing amplifier.", 16 ISO (out) "(Current Sense Amplifier Output) A feedback resistor to ISN is connected here to make a differential sensing amplifier."

## UC3524ADW
designator U?
Advanced Regulating Pulse Width Modulator with Voltage Control, 50 % Duty Cycle, 0 to +70 degC, 16-pin SOIC (DW), Green (RoHS & no Sb/Br); PartNumber: UC3524ADW; Manufacturer: Texas Instruments; Duty Cycle(Max)(%): 50; Frequency(Max)(kHz): 450; Rating: Catalog; Regulated Outputs(#): 2; SubFamily: PWM Controller; Topology: Boost, Buck, Flyback, Forward, Full-Bridge, Half-Bridge, Push-Pull; DatasheetVersion: SLUS181B; PackageVersion: revG, Jan-2011; PackageReference: DW16; PackageDescription: 16-Pin Small Outline Integrated Circuit, 10.3 x 7.5 mm, Pitch 1.27 mm Pitch; Supplier 1: Digi-Key; Supplier Part Number 1: 296-11211-5-ND; Supplier 2: Farnell; Supplier Part Number 2: 1533808; Supplier 3: Newark; Supplier Part Number 3: 77C3116; Supplier 4: Mouser; Supplier Part Number 4: 595-UC3524ADW; Control Method: Voltage; Eco-Plan: Green (RoHS & no Sb/Br); UVLO Thresholds On/Off(V): 7.5/7; Mounting Technology: Surface Mount; Code_JEDEC: MS-013-AA; ComponentLink1Description: Datasheet; ComponentLink1URL: http://www.ti.com/general/docs/lit/getliterature.tsp?genericPartNumber=UC3524A&fileType=pdf
footprint DW16_N (SOIC, 16-Leads, Body 10.3x7.5mm, Pitch 1.27mm, IPC Medium Density)
footprint DW16_L (SOIC, 16-Leads, Body 10.3x7.5mm, Pitch 1.27mm, IPC High Density)
footprint DW16_M (SOIC, 16-Leads, Body 10.3x7.5mm, Pitch 1.27mm, IPC Low Density)
pins: 1 INV INPUT (in), 2 NON-INV INPUT (in), 3 OSC/SYNC (io), 4 CL (+) SENSE (in), 5 CL (-) SENSE (in), 6 RT, 7 CT, 8 GROUND (power), 9 COMPENSATION (out), 10 SHUTDOWN (in), 11 EMITTER A, 12 COLLECTOR A, 13 COLLECTOR B, 14 EMITTER B, 15 +VIN (power), 16 +5V VREF (out)

## UC3524ADWG4
designator U?
Advanced Regulating Pulse Width Modulator with Voltage Control, 50 % Duty Cycle, 0 to +70 degC, 16-pin SOIC (DW), Green (RoHS & no Sb/Br); PartNumber: UC3524ADWG4; Manufacturer: Texas Instruments; Duty Cycle(Max)(%): 50; Frequency(Max)(kHz): 450; Rating: Catalog; Regulated Outputs(#): 2; SubFamily: PWM Controller; Topology: Boost, Buck, Flyback, Forward, Full-Bridge, Half-Bridge, Push-Pull; DatasheetVersion: SLUS181B; PackageVersion: revG, Jan-2011; PackageReference: DW16; PackageDescription: 16-Pin Small Outline Integrated Circuit, 10.3 x 7.5 mm, Pitch 1.27 mm Pitch; Supplier 1: Digi-Key; Supplier Part Number 1: UC3524ADWG4-ND; Supplier 2: Newark; Supplier Part Number 2: 81K4518; Supplier 3: Mouser; Supplier Part Number 3: 595-UC3524ADWG4; Control Method: Voltage; Eco-Plan: Green (RoHS & no Sb/Br); UVLO Thresholds On/Off(V): 7.5/7; Mounting Technology: Surface Mount; Code_JEDEC: MS-013-AA; ComponentLink1Description: Datasheet; ComponentLink1URL: http://www.ti.com/general/docs/lit/getliterature.tsp?genericPartNumber=UC3524A&fileType=pdf
footprint DW16_N (SOIC, 16-Leads, Body 10.3x7.5mm, Pitch 1.27mm, IPC Medium Density)
footprint DW16_L (SOIC, 16-Leads, Body 10.3x7.5mm, Pitch 1.27mm, IPC High Density)
footprint DW16_M (SOIC, 16-Leads, Body 10.3x7.5mm, Pitch 1.27mm, IPC Low Density)
pins: 1 INV INPUT (in), 2 NON-INV INPUT (in), 3 OSC/SYNC (io), 4 CL (+) SENSE (in), 5 CL (-) SENSE (in), 6 RT, 7 CT, 8 GROUND (power), 9 COMPENSATION (out), 10 SHUTDOWN (in), 11 EMITTER A, 12 COLLECTOR A, 13 COLLECTOR B, 14 EMITTER B, 15 +VIN (power), 16 +5V VREF (out)

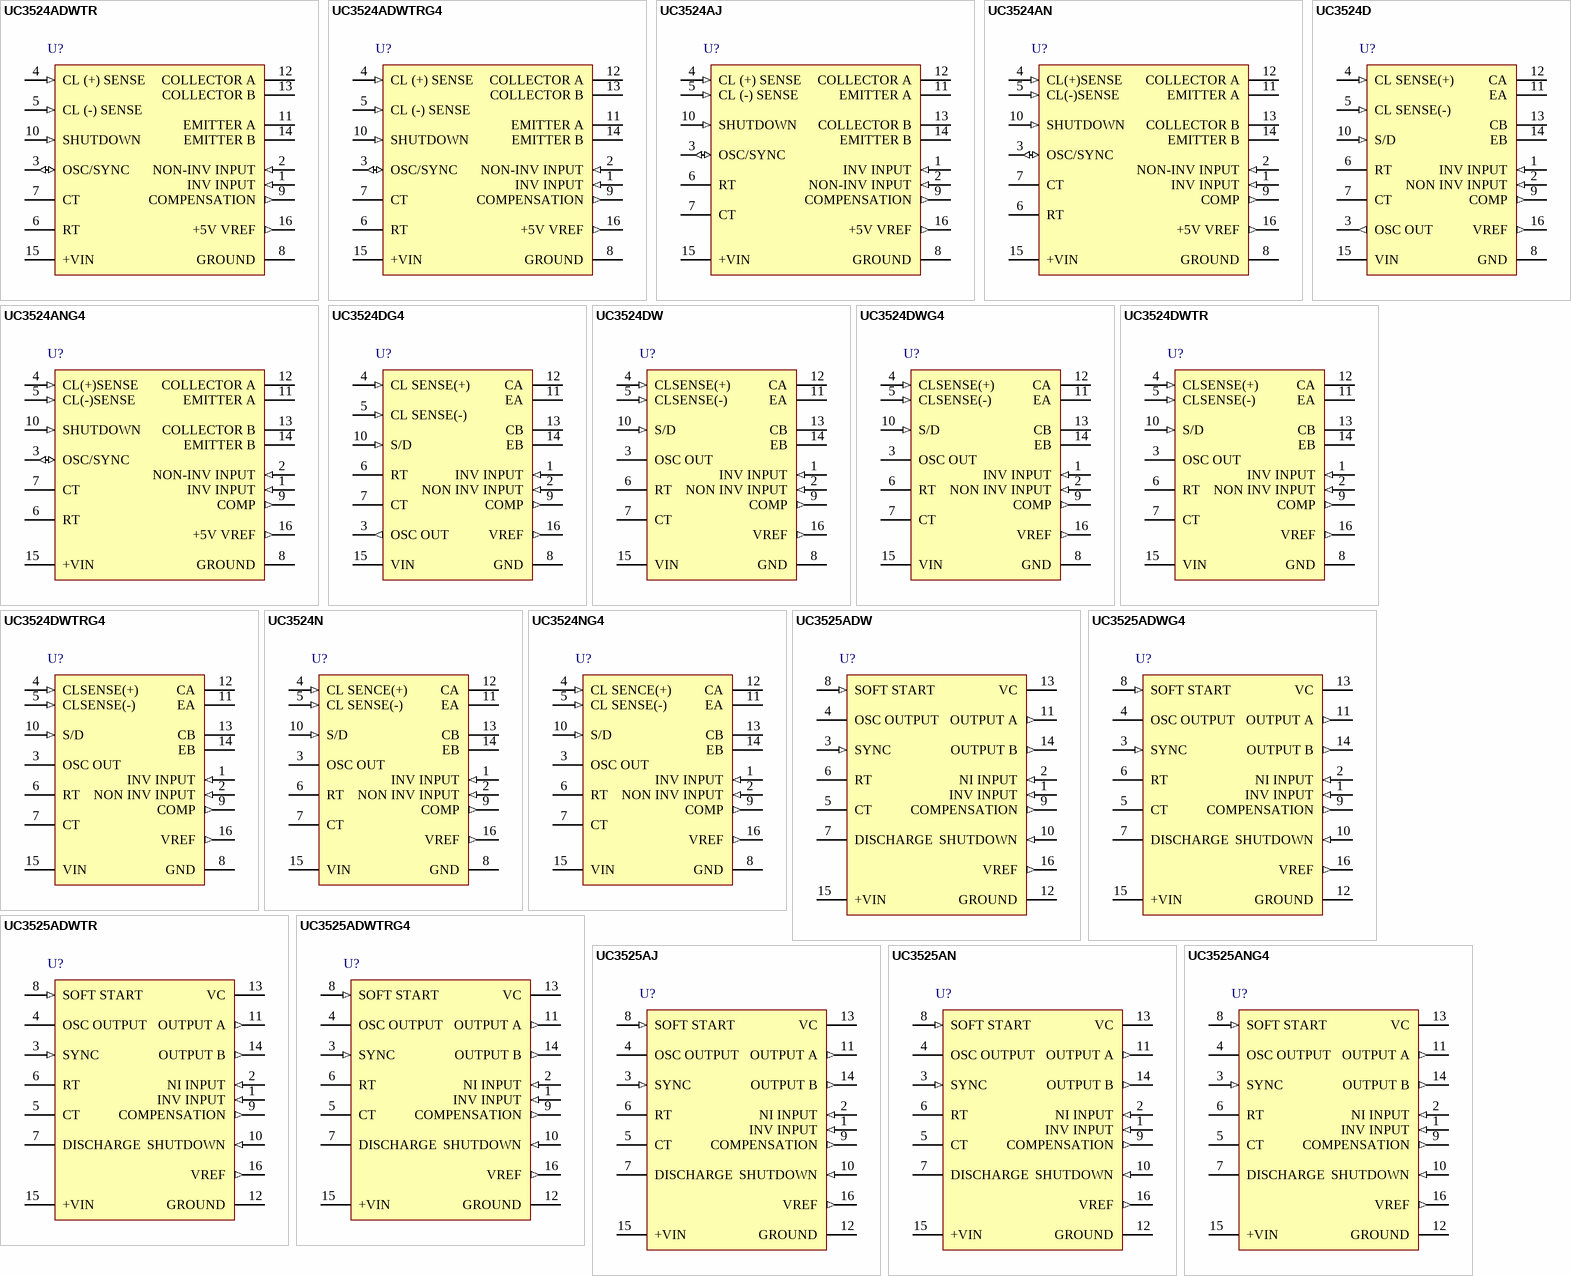
[diagram p26: symbols UC3524ADWTR to UC3525ANG4]

## UC3524ADWTR
designator U?
Advanced Regulating Pulse Width Modulator with Voltage Control, 50 % Duty Cycle, 0 to +70 degC, 16-pin SOIC (DW), Green (RoHS & no Sb/Br); PartNumber: UC3524ADWTR; Manufacturer: Texas Instruments; Duty Cycle(Max)(%): 50; Frequency(Max)(kHz): 450; Rating: Catalog; Regulated Outputs(#): 2; SubFamily: PWM Controller; Topology: Boost, Buck, Flyback, Forward, Full-Bridge, Half-Bridge, Push-Pull; DatasheetVersion: SLUS181B; PackageVersion: revG, Jan-2011; PackageReference: DW16; PackageDescription: 16-Pin Small Outline Integrated Circuit, 10.3 x 7.5 mm, Pitch 1.27 mm Pitch; Supplier 1: Digi-Key; Supplier Part Number 1: UC3524ADWTR-ND; Supplier 2: Newark; Supplier Part Number 2: 77C3117; Supplier 3: Mouser; Supplier Part Number 3: 595-UC3524ADWTR; Control Method: Voltage; Eco-Plan: Green (RoHS & no Sb/Br); UVLO Thresholds On/Off(V): 7.5/7; Mounting Technology: Surface Mount; Code_JEDEC: MS-013-AA; ComponentLink1Description: Datasheet; ComponentLink1URL: http://www.ti.com/general/docs/lit/getliterature.tsp?genericPartNumber=UC3524A&fileType=pdf
footprint DW16_N (SOIC, 16-Leads, Body 10.3x7.5mm, Pitch 1.27mm, IPC Medium Density)
footprint DW16_L (SOIC, 16-Leads, Body 10.3x7.5mm, Pitch 1.27mm, IPC High Density)
footprint DW16_M (SOIC, 16-Leads, Body 10.3x7.5mm, Pitch 1.27mm, IPC Low Density)
pins: 1 INV INPUT (in), 2 NON-INV INPUT (in), 3 OSC/SYNC (io), 4 CL (+) SENSE (in), 5 CL (-) SENSE (in), 6 RT, 7 CT, 8 GROUND (power), 9 COMPENSATION (out), 10 SHUTDOWN (in), 11 EMITTER A, 12 COLLECTOR A, 13 COLLECTOR B, 14 EMITTER B, 15 +VIN (power), 16 +5V VREF (out)

## UC3524ADWTRG4
designator U?
Advanced Regulating Pulse Width Modulator with Voltage Control, 50 % Duty Cycle, 0 to +70 degC, 16-pin SOIC (DW), Green (RoHS & no Sb/Br); PartNumber: UC3524ADWTRG4; Manufacturer: Texas Instruments; Duty Cycle(Max)(%): 50; Frequency(Max)(kHz): 450; Rating: Catalog; Regulated Outputs(#): 2; SubFamily: PWM Controller; Topology: Boost, Buck, Flyback, Forward, Full-Bridge, Half-Bridge, Push-Pull; DatasheetVersion: SLUS181B; PackageVersion: revG, Jan-2011; PackageReference: DW16; PackageDescription: 16-Pin Small Outline Integrated Circuit, 10.3 x 7.5 mm, Pitch 1.27 mm Pitch; Supplier 1: Digi-Key; Supplier Part Number 1: UC3524ADWTRG4-ND; Supplier 2: Newark; Supplier Part Number 2: 63K6709; Supplier 3: Mouser; Supplier Part Number 3: 595-UC3524ADWTRG4; Control Method: Voltage; Eco-Plan: Green (RoHS & no Sb/Br); UVLO Thresholds On/Off(V): 7.5/7; Mounting Technology: Surface Mount; Code_JEDEC: MS-013-AA; ComponentLink1Description: Datasheet; ComponentLink1URL: http://www.ti.com/general/docs/lit/getliterature.tsp?genericPartNumber=UC3524A&fileType=pdf
footprint DW16_N (SOIC, 16-Leads, Body 10.3x7.5mm, Pitch 1.27mm, IPC Medium Density)
footprint DW16_L (SOIC, 16-Leads, Body 10.3x7.5mm, Pitch 1.27mm, IPC High Density)
footprint DW16_M (SOIC, 16-Leads, Body 10.3x7.5mm, Pitch 1.27mm, IPC Low Density)
pins: 1 INV INPUT (in), 2 NON-INV INPUT (in), 3 OSC/SYNC (io), 4 CL (+) SENSE (in), 5 CL (-) SENSE (in), 6 RT, 7 CT, 8 GROUND (power), 9 COMPENSATION (out), 10 SHUTDOWN (in), 11 EMITTER A, 12 COLLECTOR A, 13 COLLECTOR B, 14 EMITTER B, 15 +VIN (power), 16 +5V VREF (out)

## UC3524AJ
designator U?
Advanced Regulating Pulse Width Modulator with Voltage Control, 50 % Duty Cycle, 0 to +70 degC, 16-pin CDIP (J), Green (RoHS & no Sb/Br); PartNumber: UC3524AJ; Manufacturer: Texas Instruments; Duty Cycle(Max)(%): 50; Eco-Plan: TBD; Frequency(Max)(kHz): 450; Rating: Military; Regulated Outputs(#): 2; SubFamily: PWM Controller; Topology: Boost, Buck, Flyback, Forward, Full-Bridge, Half-Bridge, Push-Pull; DatasheetVersion: SLUS181B; PackageVersion: revF, Mar-2003; PackageReference: J16; PackageDescription: 16-Pin, Ceramic Dual In-Line Package, Row Spacing 7.62 mm, Pitch 2.54 mm; Control Method: Voltage; UVLO Thresholds On/Off(V): 7.5/7; Mounting Technology: Through Hole; ComponentLink1Description: Datasheet; ComponentLink1URL: http://www.ti.com/general/docs/lit/getliterature.tsp?genericPartNumber=UC3524AM&fileType=pdf
footprint J16 (DIP, 16-Leads, Row Spacing 7.62mm, Pitch 2.54mm, Body 21.3x6.9mm)
pins: 1 INV INPUT (in), 2 NON-INV INPUT (in), 3 OSC/SYNC (io), 4 CL (+) SENSE (in), 5 CL (-) SENSE (in), 6 RT, 7 CT, 8 GROUND (power), 9 COMPENSATION (out), 10 SHUTDOWN (in), 11 EMITTER A, 12 COLLECTOR A, 13 COLLECTOR B, 14 EMITTER B, 15 +VIN (power), 16 +5V VREF (out)

## UC3524AN
designator U?
Advanced Regulating Pulse Width Modulator with Voltage Control, 50 % Duty Cycle, 0 to +70 degC, 16-pin PDIP (N), Green (RoHS & no Sb/Br); PartNumber: UC3524AN; Manufacturer: Texas Instruments; Duty Cycle(Max)(%): 50; Frequency(Max)(kHz): 450; Rating: Catalog; Regulated Outputs(#): 2; SubFamily: PWM Controller; Topology: Boost, Buck, Flyback, Forward, Full-Bridge, Half-Bridge, Push-Pull; DatasheetVersion: SLUS181B; PackageVersion: revE, Dec-2002; PackageReference: N16; PackageDescription: 16-Pin Plastic Dual-In-Line Package, Row Spacing 7.62 mm, Pitch 2.54 mm; Supplier 1: Digi-Key; Supplier Part Number 1: 296-11212-5-ND; Supplier 2: Farnell; Supplier Part Number 2: 1523796; Supplier 3: Newark; Supplier Part Number 3: 68K1137; Supplier 4: Mouser; Supplier Part Number 4: 595-UC3524AN; Control Method: Voltage; Eco-Plan: Green (RoHS & no Sb/Br); UVLO Thresholds On/Off(V): 7.5/7; Mounting Technology: Through Hole; Code_JEDEC: MS-001*; ComponentLink1Description: Datasheet; ComponentLink1URL: http://www.ti.com/general/docs/lit/getliterature.tsp?genericPartNumber=UC3524A&fileType=pdf
footprint N16 (DIP, 16-Leads, Row Spacing 7.62mm, Pitch 2.54mm, Body 19.3x6.4mm)
pins: 1 INV INPUT (in), 2 NON-INV INPUT (in), 3 OSC/SYNC (io), 4 CL(+)SENSE (in), 5 CL(-)SENSE (in), 6 RT, 7 CT, 8 GROUND (power), 9 COMP (out), 10 SHUTDOWN (in), 11 EMITTER A, 12 COLLECTOR A, 13 COLLECTOR B, 14 EMITTER B, 15 +VIN (power), 16 +5V VREF (out)

## UC3524ANG4
designator U?
Advanced Regulating Pulse Width Modulator with Voltage Control, 50 % Duty Cycle, 0 to +70 degC, 16-pin PDIP (N), Green (RoHS & no Sb/Br); PartNumber: UC3524ANG4; Manufacturer: Texas Instruments; Duty Cycle(Max)(%): 50; Frequency(Max)(kHz): 450; Rating: Catalog; Regulated Outputs(#): 2; SubFamily: PWM Controller; Topology: Boost, Buck, Flyback, Forward, Full-Bridge, Half-Bridge, Push-Pull; DatasheetVersion: SLUS181B; PackageVersion: revE, Dec-2002; PackageReference: N16; PackageDescription: 16-Pin Plastic Dual-In-Line Package, Row Spacing 7.62 mm, Pitch 2.54 mm; Supplier 1: Digi-Key; Supplier Part Number 1: UC3524ANG4-ND; Supplier 2: Newark; Supplier Part Number 2: 67K8823; Supplier 3: Mouser; Supplier Part Number 3: 595-UC3524ANG4; Control Method: Voltage; Eco-Plan: Green (RoHS & no Sb/Br); UVLO Thresholds On/Off(V): 7.5/7; Mounting Technology: Through Hole; Code_JEDEC: MS-001*; ComponentLink1Description: Datasheet; ComponentLink1URL: http://www.ti.com/general/docs/lit/getliterature.tsp?genericPartNumber=UC3524A&fileType=pdf
footprint N16 (DIP, 16-Leads, Row Spacing 7.62mm, Pitch 2.54mm, Body 19.3x6.4mm)
pins: 1 INV INPUT (in), 2 NON-INV INPUT (in), 3 OSC/SYNC (io), 4 CL(+)SENSE (in), 5 CL(-)SENSE (in), 6 RT, 7 CT, 8 GROUND (power), 9 COMP (out), 10 SHUTDOWN (in), 11 EMITTER A, 12 COLLECTOR A, 13 COLLECTOR B, 14 EMITTER B, 15 +VIN (power), 16 +5V VREF (out)

## UC3524D
designator U?
Advanced Regulating Pulse Width Modulator with Voltage Control, 50 % Duty Cycle, 0 to +70 degC, 16-pin SOIC (D), Green (RoHS & no Sb/Br); PartNumber: UC3524D; Manufacturer: Texas Instruments; Duty Cycle(Max)(%): 50; Frequency(Max)(kHz): 450; Rating: Military; Regulated Outputs(#): 2; SubFamily: PWM Controller; Topology: Boost, Flyback, Forward, Full-Bridge, Half-Bridge, Push-Pull; DatasheetVersion: SLUS180E; PackageVersion: revM, Jun-2011; PackageReference: D16; PackageDescription: 16-Pin Plastic Small Outline Integrated Circuit, 9.9 x 3.9 mm, Pitch 1.27 mm Pitch; Supplier 1: Digi-Key; Supplier Part Number 1: 296-11213-5-ND; Supplier 2: Newark; Supplier Part Number 2: 77C3119; Supplier 3: Mouser; Supplier Part Number 3: 595-UC3524D; Control Method: Voltage; Eco-Plan: Green (RoHS & no Sb/Br); UVLO Thresholds On/Off(V): 7.5/7; Mounting Technology: Surface Mount; Code_JEDEC: MS-012AC; ComponentLink1Description: Datasheet; ComponentLink1URL: http://www.ti.com/general/docs/lit/getliterature.tsp?genericPartNumber=UC3524&fileType=pdf
footprint D16_N (SOIC, 16-Leads, Body 9.9x3.9mm, Pitch 1.27mm, IPC Medium Density)
footprint D16_L (SOIC, 16-Leads, Body 9.9x3.9mm, Pitch 1.27mm, IPC High Density)
footprint D16_M (SOIC, 16-Leads, Body 9.9x3.9mm, Pitch 1.27mm, IPC Low Density)
pins: 1 INV INPUT (in), 2 NON INV INPUT (in), 3 OSC OUT (out), 4 CL SENSE(+) (in), 5 CL SENSE(-) (in), 6 RT, 7 CT, 8 GND (power), 9 COMP (out), 10 S/D (in), 11 EA, 12 CA, 13 CB, 14 EB, 15 VIN (power), 16 VREF (out)

## UC3524DG4
designator U?
Advanced Regulating Pulse Width Modulator with Voltage Control, 50 % Duty Cycle, 0 to +70 degC, 16-pin SOIC (D), Green (RoHS & no Sb/Br); PartNumber: UC3524DG4; Manufacturer: Texas Instruments; Duty Cycle(Max)(%): 50; Frequency(Max)(kHz): 450; Rating: Military; Regulated Outputs(#): 2; SubFamily: PWM Controller; Topology: Boost, Flyback, Forward, Full-Bridge, Half-Bridge, Push-Pull; DatasheetVersion: SLUS180E; PackageVersion: revM, Jun-2011; PackageReference: D16; PackageDescription: 16-Pin Plastic Small Outline Integrated Circuit, 9.9 x 3.9 mm, Pitch 1.27 mm Pitch; Supplier 1: Digi-Key; Supplier Part Number 1: UC3524DG4-ND; Supplier 2: Newark; Supplier Part Number 2: 60M2698; Supplier 3: Mouser; Supplier Part Number 3: 595-UC3524DG4; Control Method: Voltage; Eco-Plan: Green (RoHS & no Sb/Br); UVLO Thresholds On/Off(V): 7.5/7; Mounting Technology: Surface Mount; Code_JEDEC: MS-012AC; ComponentLink1Description: Datasheet; ComponentLink1URL: http://www.ti.com/general/docs/lit/getliterature.tsp?genericPartNumber=UC3524&fileType=pdf
footprint D16_N (SOIC, 16-Leads, Body 9.9x3.9mm, Pitch 1.27mm, IPC Medium Density)
footprint D16_L (SOIC, 16-Leads, Body 9.9x3.9mm, Pitch 1.27mm, IPC High Density)
footprint D16_M (SOIC, 16-Leads, Body 9.9x3.9mm, Pitch 1.27mm, IPC Low Density)
pins: 1 INV INPUT (in), 2 NON INV INPUT (in), 3 OSC OUT (out), 4 CL SENSE(+) (in), 5 CL SENSE(-) (in), 6 RT, 7 CT, 8 GND (power), 9 COMP (out), 10 S/D (in), 11 EA, 12 CA, 13 CB, 14 EB, 15 VIN (power), 16 VREF (out)